# EAGLE library part 691414720220 (library Terminal_Blocks_Connectors_rev15e)
WR-TBL Serie 4147 - 5.0mm Screwless 45° Entry - 3 mm2 Wires, 5 Pins
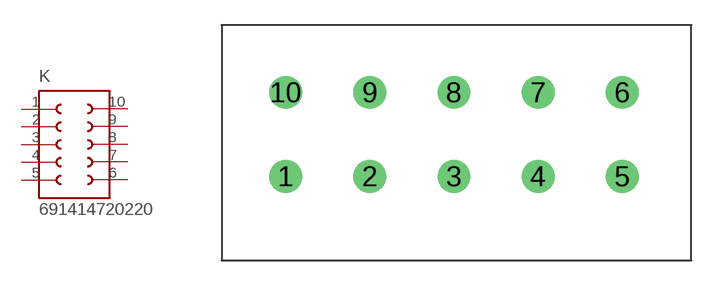
[diagram p256: symbol with the pads of 691414720005; footprint 691414720005]

Designator prefix K

## 691414720220  [691414720005]
1  1  pas
2  2  pas
3  3  pas
4  4  pas
5  5  pas
6  6  pas
7  7  pas
8  8  pas
9  9  pas
10  10  pas

## Footprint 691414720005 (pad centres in mm)
WR-TBL Serie 4147 - 5.0mm Screwless 45° Entry - 3 mm2 Wires, 5 Pins
drill 1.3: 1 -2.46,-2.54; 2 2.54,-2.54; 3 7.54,-2.54; 4 12.54,-2.54; 5 17.54,-2.54; 6 17.54,2.46; 7 12.54,2.46; 8 7.54,2.46; 9 2.54,2.46; 10 -2.46,2.46